# Altium schematic symbol library RLC-Library.SchLib: 7 symbols
Pins are listed as number, name and electrical type; pins without a type are passive.

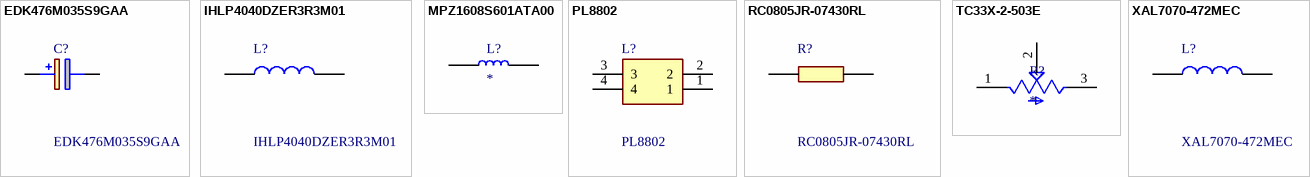
[diagram p0: symbols EDK476M035S9GAA to XAL7070-472MEC]

## EDK476M035S9GAA
designator C?
Surface Mount, Aluminum Electrolytic; Manufacturer_Name: Yageo Group; Geometry.Height: 5.65mm; Manufacturer_Part_Number: EDK476M035S9GAA; Mouser Part Number: 80-EDK476M035S9GAA; Mouser Price/Stock: https://www.mouser.co.uk/ProductDetail/KEMET/EDK476M035S9GAA?qs=T9vdlufmP8xkQWuUhcj0Kg%3D%3D; Arrow Part Number: EDK476M035S9GAA; Arrow Price/Stock: https://www.arrow.com/en/products/edk476m035s9gaa/kemet-corporation?utm_currency=USD&region=nac; Datasheet Link: https://www.yageogroup.com/content/datasheet/asset/file/KEM_A4001_EDK
footprint EDK476M035S9GAA
pins: 1 +, 2 -

## IHLP4040DZER3R3M01
designator L?
Inductor High Current Shielded Wirewound 3.3uH 20% 100KHz 10A 11.8mOhm DCR 4040 T/R; Manufacturer_Name: Vishay; Geometry.Height: 4mm; Core Material: Composite; DC Resistance (DCR): 11.8mΩ; Value: 3.3µH; Max DC Current: 18.6A; Number of Circuits: 1; Self Resonant Frequency: 5MHz; ESR: 14.4mΩ; Shielding: Yes; Manufacturer_Part_Number: IHLP4040DZER3R3M01; Mouser Part Number: 70-IHLP4040DZER3R3M0; Mouser Price/Stock: https://www.mouser.co.uk/ProductDetail/Vishay-Dale/IHLP4040DZER3R3M01?qs=UUKq9QDXQ0nKJM%252B3xlQGHA%3D%3D; Arrow Part Number: IHLP4040DZER3R3M01; Arrow Price/Stock: https://www.arrow.com/en/products/ihlp4040dzer3r3m01/vishay?region=nac; Datasheet Link: https://www.vishay.com/docs/34193/ihlp-4040dz-01.pdf; Supplier: Farnell; Supplier Part Number: 1547037; Manufacturer: Vishay; Manufacturer Part Number: IHLP4040DZER3R3M01; RoHS: Compliant; Category: Fixed Inductors; Stock: 559; Case/Package: 4040; Case Code (Imperial): 4040; China RoHS: Compliant; Composition: Wirewound; Contact Plating: Tin; Current Rating: 10A; Depth: 10.3mm; Height: 4mm; Height - Seated (Max): 3.9878mm; Inductance Tolerance: 20%; Lead Free: Lead Free; Lifecycle Status: Production; Max Current Rating: 10A; Max Operating Temperature: 125°C; Military Standard: Not; Min Operating Temperature: -55°C; Mounting Technology: Surface Mount; Number of Terminals: 2; Radiation Hardening: No; REACH SVHC: Yes; RMS Current (Irms): 10A; Saturation Current: 18.6A; Schedule B: 8504500000, 8504500000|8504500000|8504500000|8504500000|8504500000; Termination: SMD/SMT; Test Frequency: 100kHz; Tolerance: 20%; Weight: 2.000002g; Width: 10.16mm; ComponentLink1URL: https://datasheet.octopart.com:443/IHLP4040DZER3R3M01-Vishay-datasheet-181468593.pdf?src-supplier=IHS; ComponentLink1Description: https://datasheet.octopart.com:443/IHLP4040DZER3R3M01-Vishay-datasheet-181468593.pdf?src-supplier=IHS; ComponentLink2URL: https://datasheet.octopart.com:443/IHLP4040DZER3R3M01-Vishay-Dale-datasheet-181465866.pdf?src-supplier=IHS; ComponentLink2Description: https://datasheet.octopart.com:443/IHLP4040DZER3R3M01-Vishay-Dale-datasheet-181465866.pdf?src-supplier=IHS; ComponentLink3URL: https://datasheet.octopart.com:443/IHLP4040DZER3R3M01-Vishay-datasheet-67039456.pdf?src-supplier=Farnell; ComponentLink3Description: https://datasheet.octopart.com:443/IHLP4040DZER3R3M01-Vishay-datasheet-67039456.pdf?src-supplier=Farnell; ComponentLink4URL: https://datasheet.octopart.com:443/IHLP4040DZER3R3M01-Vishay-datasheet-167142.pdf?src-supplier=Farnell; ComponentLink4Description: https://datasheet.octopart.com:443/IHLP4040DZER3R3M01-Vishay-datasheet-167142.pdf?src-supplier=Farnell; ComponentLink5URL: https://datasheet.octopart.com/IHLP4040DZER3R3M01-Vishay-datasheet-12542609.pdf; ComponentLink5Description: https://datasheet.octopart.com/IHLP4040DZER3R3M01-Vishay-datasheet-12542609.pdf; ComponentLink6URL: https://datasheet.octopart.com/IHLP4040DZER3R3M01-Vishay-datasheet-12537444.pdf; ComponentLink6Description: https://datasheet.octopart.com/IHLP4040DZER3R3M01-Vishay-datasheet-12537444.pdf; ComponentLink7URL: https://datasheet.octopart.com/IHLP4040DZER3R3M01-Vishay-datasheet-12514016.pdf; ComponentLink7Description: https://datasheet.octopart.com/IHLP4040DZER3R3M01-Vishay-datasheet-12514016.pdf; ComponentLink8URL: https://datasheet.octopart.com/IHLP4040DZER3R3M01-Vishay-datasheet-5394347.pdf; ComponentLink8Description: https://datasheet.octopart.com/IHLP4040DZER3R3M01-Vishay-datasheet-5394347.pdf; ComponentLink9URL: https://datasheet.octopart.com:443/IHLP4040DZER3R3M01-Vishay-datasheet-8434461.pdf?src-supplier=Newark; ComponentLink9Description: https://datasheet.octopart.com:443/IHLP4040DZER3R3M01-Vishay-datasheet-8434461.pdf?src-supplier=Newark; ComponentLink10URL: https://datasheet.octopart.com:443/IHLP4040DZER3R3M01-Vishay-datasheet-62320562.pdf?src-supplier=element14+APAC; ComponentLink10Description: https://datasheet.octopart.com:443/IHLP4040DZER3R3M01-Vishay-datasheet-62320562.pdf?src-supplier=element14+APAC; ComponentLink11URL: https://datasheet.octopart.com:443/IHLP4040DZER3R3M01-Vishay-datasheet-101783941.pdf?src-supplier=Future+Electronics; ComponentLink11Description: https://datasheet.octopart.com:443/IHLP4040DZER3R3M01-Vishay-datasheet-101783941.pdf?src-supplier=Future+Electronics; ComponentLink12URL: https://datasheet.octopart.com:443/IHLP4040DZER3R3M01-Vishay-datasheet-12531877.pdf?src-supplier=Future+Electronics; ComponentLink12Description: https://datasheet.octopart.com:443/IHLP4040DZER3R3M01-Vishay-datasheet-12531877.pdf?src-supplier=Future+Electronics; ComponentLink13URL: https://datasheet.octopart.com:443/IHLP4040DZER3R3M01-Vishay-Dale-datasheet-42936488.pdf?src-supplier=RS+(Formerly+Allied+Electronics); ComponentLink13Description: https://datasheet.octopart.com:443/IHLP4040DZER3R3M01-Vishay-Dale-datasheet-42936488.pdf?src-supplier=RS+(Formerly+Allied+Electronics); ComponentLink14URL: https://datasheet.octopart.com:443/IHLP4040DZER3R3M01-Vishay-datasheet-140572121.pdf?src-supplier=Arrow.cn; ComponentLink14Description: https://datasheet.octopart.com:443/IHLP4040DZER3R3M01-Vishay-datasheet-140572121.pdf?src-supplier=Arrow.cn; ComponentLink15URL: http://sigma.octopart.com:80/rohs_statement/Vishay-company-15.pdf?src-supplier=Compliance+Statements; ComponentLink15Description: http://sigma.octopart.com:80/rohs_statement/Vishay-company-15.pdf?src-supplier=Compliance+Statements
footprint IHLP4040DZER3R3M01
pins: 1, 2

## MPZ1608S601ATA00
designator L?
Ferrite Beads Multi-Layer 600Ohm 25% 100MHz 1A 0.15Ohm DCR 0603 T/R; Manufacturer Lifecycle Status: PRODUCTION; MF: TDK; MP: MPZ1608S601ATA00; DC Resistance (DCR): 150mΩ; Impedance: 600Ω; Number of Circuits: 1; SnapEDA_Link: https://www.snapeda.com/parts/MPZ1608S601ATA00/TDK/view-part/?ref=snap; Package: 0603 TDK; Value: *; Check_prices: https://www.snapeda.com/parts/MPZ1608S601ATA00/TDK/view-part/?ref=eda; Supplier: Farnell; Supplier Part Number: 2800777; Manufacturer: TDK; Manufacturer Part Number: MPZ1608S601ATA00; RoHS: Compliant; Category: Ferrite Beads and Chips; Stock: 80000; Case/Package: 0603; Case Code (Imperial): 0603; Case Code (Metric): 1608; China RoHS: Compliant; Core Material: Ferrite; Current Rating: 1A; Depth: 800µm; Height: 800µm; Lead Free: Lead Free; Length: 1.6mm; Lifecycle Status: Production; Max DC Current: 1A; Clock Frequency: 100MHz; Max Length: 1.75mm; Max Operating Temperature: 125°C; Max Width: 950µm; Min Length: 1.45mm; Min Operating Temperature: -55°C; Min Width: 650µm; Mounting Technology: Surface Mount; Number of Terminals: 2; Packaging: Cut Tape; REACH SVHC: Yes; RMS Current (Irms): 1A; Schedule B: 8504500000, 8504500000|8504500000|8504500000|8504500000|8504500000; ESR: 150mΩ; Termination: SMD/SMT; Test Frequency: 100MHz; Tolerance: 25%; Weight: 2.012816mg; Width: 800µm; ComponentLink1URL: https://datasheet.octopart.com:443/MPZ1608S601ATA00-TDK-datasheet-155380319.pdf?src-supplier=TDK; ComponentLink1Description: https://datasheet.octopart.com:443/MPZ1608S601ATA00-TDK-datasheet-155380319.pdf?src-supplier=TDK; ComponentLink2URL: https://datasheet.octopart.com:443/MPZ1608S601ATA00-TDK-datasheet-141913842.pdf?src-supplier=TME; ComponentLink2Description: https://datasheet.octopart.com:443/MPZ1608S601ATA00-TDK-datasheet-141913842.pdf?src-supplier=TME; ComponentLink3URL: https://datasheet.octopart.com:443/MPZ1608S601ATA00-TDK-datasheet-82475260.pdf?src-supplier=Newark; ComponentLink3Description: https://datasheet.octopart.com:443/MPZ1608S601ATA00-TDK-datasheet-82475260.pdf?src-supplier=Newark; ComponentLink4URL: https://datasheet.octopart.com:443/MPZ1608S601ATA00-TDK-datasheet-99917310.pdf?src-supplier=Newark; ComponentLink4Description: https://datasheet.octopart.com:443/MPZ1608S601ATA00-TDK-datasheet-99917310.pdf?src-supplier=Newark; ComponentLink5URL: https://datasheet.octopart.com:443/MPZ1608S601ATA00-TDK-datasheet-8852356.pdf?src-supplier=Newark; ComponentLink5Description: https://datasheet.octopart.com:443/MPZ1608S601ATA00-TDK-datasheet-8852356.pdf?src-supplier=Newark; ComponentLink6URL: https://datasheet.octopart.com:443/MPZ1608S601ATA00-TDK-datasheet-21631858.pdf?src-supplier=Farnell; ComponentLink6Description: https://datasheet.octopart.com:443/MPZ1608S601ATA00-TDK-datasheet-21631858.pdf?src-supplier=Farnell; ComponentLink7URL: https://datasheet.octopart.com:443/MPZ1608S601ATA00-TDK-datasheet-38423207.pdf?src-supplier=Future+Electronics; ComponentLink7Description: https://datasheet.octopart.com:443/MPZ1608S601ATA00-TDK-datasheet-38423207.pdf?src-supplier=Future+Electronics
footprint INDC1608X95N
pins: 1, 2

## PL8802
designator L?
Common Mode Choke, 3000uH, 30%, 2 Element, SMD, 9170; Manufacturer_Name: iNRCORE; Geometry.Height: 13.2mm; Current Rating: 2.5A; DC Resistance (DCR): 80mΩ; Value: 3mH; Number of Circuits: 2; Self Resonant Frequency: 2.2MHz; Shielding: Unshielded; Voltage Rating: 250V; Manufacturer_Part_Number: PL8802; Mouser Part Number: 673-PL8802; Mouser Price/Stock: https://www.mouser.co.uk/ProductDetail/iNRCORE/PL8802?qs=BZBei1rCqCCAwZH68Kczkw%3D%3D; Arrow Part Number: *; Arrow Price/Stock: *; Datasheet Link: https://www.mouser.co.uk/datasheet/2/937/M116-1384936.pdf; Supplier: Mouser; Supplier Part Number: 673-PL8802; Manufacturer: iNRCORE; Manufacturer Part Number: PL8802; Category: Fixed Inductors; Stock: 195; Pricing: 1=16,33, 10=16,32, 50=14,59, 100=14,59, 1000=13,36, 10000=13,36 (USD); Export Control Classification Number (ECCN) Code: EAR99; Height: 12.95mm; Harmonized Tariff Schedule (HTS) Code: 8504.50.80.00; Introduction Date: 2006-02-14; Length: 23.11mm; Lifecycle Status: Production; Max Current Rating: 2.5A; Max Operating Temperature: 130°C; Min Operating Temperature: -55°C; Number of Terminals: 4; Tolerance: 30%; Width: 17.78mm; ComponentLink1URL: https://datasheet.octopart.com:443/PL8802-iNRCORE-datasheet-180095662.pdf?src-supplier=IHS; ComponentLink1Description: https://datasheet.octopart.com:443/PL8802-iNRCORE-datasheet-180095662.pdf?src-supplier=IHS
footprint PL8802
pins: 1, 2, 3, 4

## RC0805JR-07430RL
designator R?
RC Series 0805 0.125 W 430 Ohm ±5% ±100 ppm/°C SMT Thick Film Chip Resistor; Manufacturer_Name: Yageo Group; Geometry.Height: 0.6mm; Max Power Dissipation: 125mW; Value: 430Ω; Voltage Rating: 150V; Manufacturer_Part_Number: RC0805JR-07430RL; Mouser Part Number: *; Mouser Price/Stock: *; Arrow Part Number: *; Arrow Price/Stock: *; Datasheet Link: http://www.yageo.com/documents/recent/PYu-RC_Group_51_RoHS_L_10.pdf; Supplier: Farnell; Supplier Part Number: 3496126; Manufacturer: Yageo Group; Manufacturer Part Number: RC0805JR-07430RL; RoHS: Compliant; Category: Chip SMD Resistors; Stock: 10100; Case/Package: 0805; Case Code (Imperial): 0805; China RoHS: Non-Compliant; Composition: Thick Film; Contact Plating: Lead, Tin; Depth: 1.25mm; Features: Moisture Resistant; Height: 500µm; Lead Free: Lead Free; Length: 2mm; Lifecycle Status: Production; Max Operating Temperature: 155°C; Military Standard: Not; Min Operating Temperature: -55°C; Mounting Technology: Surface Mount; Number of Terminals: 2; Number of Terminations: 2; Packaging: Tape & Reel; Power Dissipation: 125mW; Power Rating: 125mW; Radiation Hardening: No; REACH SVHC: Yes; Schedule B: 8533210045, 8533210045|8533210045|8533210045|8533210045|8533210045; Temperature Coefficient: 100ppm/°C; Termination: SMD/SMT; Tolerance: 5%; Voltage Rating (DC): 150V; Weight: 5.499807mg; Width: 1.25mm; Working Voltage: 150V; ComponentLink1URL: https://datasheet.octopart.com:443/RC0805JR-07430RL-Yageo-datasheet-175887523.pdf?src-supplier=Newark; ComponentLink1Description: https://datasheet.octopart.com:443/RC0805JR-07430RL-Yageo-datasheet-175887523.pdf?src-supplier=Newark; ComponentLink2URL: https://datasheet.octopart.com:443/RC0805JR-07430RL-Yageo-Group-datasheet-190305687.pdf?src-supplier=Future+Electronics; ComponentLink2Description: https://datasheet.octopart.com:443/RC0805JR-07430RL-Yageo-Group-datasheet-190305687.pdf?src-supplier=Future+Electronics; ComponentLink3URL: https://datasheet.octopart.com:443/RC0805JR-07430RL-Yageo-datasheet-164759695.pdf?src-supplier=Future+Electronics; ComponentLink3Description: https://datasheet.octopart.com:443/RC0805JR-07430RL-Yageo-datasheet-164759695.pdf?src-supplier=Future+Electronics; ComponentLink4URL: https://datasheet.octopart.com:443/RC0805JR-07430RL-Yageo-datasheet-12592811.pdf?src-supplier=Future+Electronics; ComponentLink4Description: https://datasheet.octopart.com:443/RC0805JR-07430RL-Yageo-datasheet-12592811.pdf?src-supplier=Future+Electronics; ComponentLink5URL: https://datasheet.octopart.com:443/RC0805JR-07430RL-Yageo-datasheet-8324252.pdf?src-supplier=Future+Electronics; ComponentLink5Description: https://datasheet.octopart.com:443/RC0805JR-07430RL-Yageo-datasheet-8324252.pdf?src-supplier=Future+Electronics; ComponentLink6URL: https://datasheet.octopart.com:443/RC0805JR-07430RL-Yageo-datasheet-8330313.pdf?src-supplier=TME; ComponentLink6Description: https://datasheet.octopart.com:443/RC0805JR-07430RL-Yageo-datasheet-8330313.pdf?src-supplier=TME; ComponentLink7URL: https://datasheet.octopart.com/RC0805JR-07430RL-Yageo-datasheet-73766026.pdf; ComponentLink7Description: https://datasheet.octopart.com/RC0805JR-07430RL-Yageo-datasheet-73766026.pdf; ComponentLink8URL: https://datasheet.octopart.com:443/RC0805JR-07430RL-Yageo-datasheet-118657.pdf?src-supplier=DigiKey; ComponentLink8Description: https://datasheet.octopart.com:443/RC0805JR-07430RL-Yageo-datasheet-118657.pdf?src-supplier=DigiKey; ComponentLink9URL: http://sigma.octopart.com:80/conflict_mineral_statement/Yageo-company-3.pdf?src-supplier=Compliance+Statements; ComponentLink9Description: http://sigma.octopart.com:80/conflict_mineral_statement/Yageo-company-3.pdf?src-supplier=Compliance+Statements; ComponentLink10URL: http://sigma.octopart.com:80/rohs_statement/Yageo-company-2.pdf?src-supplier=Compliance+Statements; ComponentLink10Description: http://sigma.octopart.com:80/rohs_statement/Yageo-company-2.pdf?src-supplier=Compliance+Statements
footprint RC0805JR-07430RL
pins: 1, 2

## TC33X-2-503E
designator R?
Adjustable Resistors – SMD; BOURNS; TC33X-2-503E; Cermet; 1.2 mm; 100 mW; Surface Mount; Max Power Dissipation: 100mW; Number of Turns: 1; Power Dissipation: 150mW; Temperature Coefficient: 250ppm/°C; Tolerance: 25%; Voltage Rating (DC): 50V; SnapEDA_Link: https://www.snapeda.com/parts/TC33X-2-503E/Bourns/view-part/467769/?ref=snap; Package: 1608 Bourns; MP: TC33X-2-503E; MF: Bourns; Value: *; Check_prices: https://www.snapeda.com/parts/TC33X-2-503E/Bourns/view-part/467769/?ref=eda; Digi-Key_Part_Number: TC33X-503ECT-ND; Purchase-URL: https://pricing.snapeda.com/search/part/TC33X-2-503E/?ref=eda; Supplier: DigiKey; Supplier Part Number: TC33X-503ECT-ND; Manufacturer: Bourns; Manufacturer Part Number: TC33X-2-503E; RoHS: Compliant; Category: Variable Resistors and Potentiometers; Stock: 2932; Pricing: 1=0,25, 10=0,213, 25=0,1996, 50=0,1896, 100=0,18, 250=0,168, 500=0,15938, 1000=0,15119 (USD); Color: Silver; Composition: Cermet; Depth: 3.8mm; Height: 1.2mm; Lead Free: Contains Lead; Length: 3.8mm; Lifecycle Status: Production; Max Operating Temperature: 100°C; Military Standard: Not; Min Operating Temperature: -40°C; Mounting Technology: Surface Mount; Number of Terminals: 3; Packaging: Cut Tape; Power Rating: 100mW; Radiation Hardening: No; REACH SVHC: Yes; Schedule B: 8533400080, 8533400080|8533400080|8533400080|8533400080|8533400080; Termination: Foot Print; Weight: 29.4mg; Width: 3.6mm; Working Voltage: 50V; ComponentLink1URL: https://datasheet.octopart.com:443/TC33X-2-503E-Bourns-datasheet-182142024.pdf?src-supplier=IHS; ComponentLink1Description: https://datasheet.octopart.com:443/TC33X-2-503E-Bourns-datasheet-182142024.pdf?src-supplier=IHS; ComponentLink2URL: https://datasheet.octopart.com:443/TC33X-2-503E-Bourns-datasheet-11551316.pdf?src-supplier=Electro+Sonic; ComponentLink2Description: https://datasheet.octopart.com:443/TC33X-2-503E-Bourns-datasheet-11551316.pdf?src-supplier=Electro+Sonic; ComponentLink3URL: https://datasheet.octopart.com:443/TC33X-2-503E-Bourns-datasheet-154730028.pdf?src-supplier=Electro+Sonic; ComponentLink3Description: https://datasheet.octopart.com:443/TC33X-2-503E-Bourns-datasheet-154730028.pdf?src-supplier=Electro+Sonic; ComponentLink4URL: https://datasheet.octopart.com:443/TC33X-2-503E-Bourns-datasheet-67039831.pdf?src-supplier=element14+APAC; ComponentLink4Description: https://datasheet.octopart.com:443/TC33X-2-503E-Bourns-datasheet-67039831.pdf?src-supplier=element14+APAC; ComponentLink5URL: https://datasheet.octopart.com:443/TC33X-2-503E-Bourns-datasheet-164917123.pdf?src-supplier=Newark; ComponentLink5Description: https://datasheet.octopart.com:443/TC33X-2-503E-Bourns-datasheet-164917123.pdf?src-supplier=Newark; ComponentLink6URL: https://datasheet.octopart.com:443/TC33X-2-503E-Bourns-datasheet-26822215.pdf?src-supplier=Newark; ComponentLink6Description: https://datasheet.octopart.com:443/TC33X-2-503E-Bourns-datasheet-26822215.pdf?src-supplier=Newark; ComponentLink7URL: https://datasheet.octopart.com:443/TC33X-2-503E-Bourns-datasheet-41964919.pdf?src-supplier=Newark; ComponentLink7Description: https://datasheet.octopart.com:443/TC33X-2-503E-Bourns-datasheet-41964919.pdf?src-supplier=Newark; ComponentLink8URL: https://datasheet.octopart.com:443/TC33X-2-503E-Bourns-datasheet-47549324.pdf?src-supplier=RS+(Formerly+Allied+Electronics); ComponentLink8Description: https://datasheet.octopart.com:443/TC33X-2-503E-Bourns-datasheet-47549324.pdf?src-supplier=RS+(Formerly+Allied+Electronics); ComponentLink9URL: https://datasheet.octopart.com:443/TC33X-2-503E-Bourns-datasheet-549861.pdf?src-supplier=RS+(Formerly+Allied+Electronics); ComponentLink9Description: https://datasheet.octopart.com:443/TC33X-2-503E-Bourns-datasheet-549861.pdf?src-supplier=RS+(Formerly+Allied+Electronics); ComponentLink10URL: https://datasheet.octopart.com:443/TC33X-2-503E-Bourns-datasheet-21366158.pdf?src-supplier=Farnell; ComponentLink10Description: https://datasheet.octopart.com:443/TC33X-2-503E-Bourns-datasheet-21366158.pdf?src-supplier=Farnell; ComponentLink11URL: https://datasheet.octopart.com:443/TC33X-2-503E-Bourns-datasheet-38800.pdf?src-supplier=Farnell; ComponentLink11Description: https://datasheet.octopart.com:443/TC33X-2-503E-Bourns-datasheet-38800.pdf?src-supplier=Farnell; ComponentLink12URL: https://datasheet.octopart.com:443/TC33X-2-503E-Bourns-datasheet-5319878.pdf?src-supplier=element14; ComponentLink12Description: https://datasheet.octopart.com:443/TC33X-2-503E-Bourns-datasheet-5319878.pdf?src-supplier=element14; ComponentLink13URL: https://datasheet.octopart.com:443/TC33X-2-503E-Bourns-datasheet-14175263.pdf?src-supplier=iiiC; ComponentLink13Description: https://datasheet.octopart.com:443/TC33X-2-503E-Bourns-datasheet-14175263.pdf?src-supplier=iiiC; ComponentLink14URL: https://datasheet.octopart.com:443/TC33X-2-503E-Bourns-datasheet-39003.pdf?src-supplier=Mouser; ComponentLink14Description: https://datasheet.octopart.com:443/TC33X-2-503E-Bourns-datasheet-39003.pdf?src-supplier=Mouser; ComponentLink15URL: http://sigma.octopart.com:80/conflict_mineral_statement/Bourns-company-36.pdf?src-supplier=Compliance+Statements; ComponentLink15Description: http://sigma.octopart.com:80/conflict_mineral_statement/Bourns-company-36.pdf?src-supplier=Compliance+Statements
footprint TRIM_TC33X-2-503E (Footprint not found)
pins: 1 CCW, 2 W, 3 CW

## XAL7070-472MEC
designator L?
General Purpose Inductor, 4.7uH, 20%, 1 Element, Composite-Core, SMD, 3028; Manufacturer_Name: COILCRAFT; Geometry.Height: 7mm; DC Resistance (DCR): 14.26mΩ; Value: 4.7µH; Max Current Rating: 13.6A; Number of Circuits: 1; Saturation Current: 15.2A; Self Resonant Frequency: 26MHz; Shielding: Yes; Test Frequency: 1MHz; Mouser Part Number: 994-XAL7070-472MEC; Mouser Price/Stock: https://www.mouser.co.uk/ProductDetail/Coilcraft/XAL7070-472MEC?qs=zCSbvcPd3pZar3i%2F4%252BSjWg%3D%3D; Manufacturer_Part_Number: XAL7070-472MEC; Datasheet Link: https://www.coilcraft.com/pdfs/xal7070.pdf; Supplier: Farnell; Supplier Part Number: 2289129; Manufacturer: Coilcraft; Manufacturer Part Number: XAL7070-472MEC; RoHS: Compliant; Category: Fixed Inductors; Stock: 742; Ambient Temperature Range High: 125°C; Case/Package: SMD/SMT; Core Material: Composite; Height: 7mm; Inductance Tolerance: 20%; Lead Free: Contains Lead; Length: 8mm; Lifecycle Status: Production; Max DC Current: 13.6A; Max Operating Temperature: 125°C; Min Operating Temperature: -40°C; Mounting Technology: Surface Mount; Number of Terminals: 2; Packaging: Cut Tape; REACH SVHC: Yes; RMS Current (Irms): 13.6A; ESR: 14.26mΩ; Termination: SMD/SMT; Tolerance: 20%; Width: 7.2mm; ComponentLink1URL: https://datasheet.octopart.com:443/XAL7070-472MEC-Coilcraft-datasheet-180122068.pdf?src-supplier=IHS; ComponentLink1Description: https://datasheet.octopart.com:443/XAL7070-472MEC-Coilcraft-datasheet-180122068.pdf?src-supplier=IHS; ComponentLink2URL: https://datasheet.octopart.com:443/XAL7070-472MEC-Coilcraft-datasheet-10791984.pdf?src-supplier=Coilcraft+Direct; ComponentLink2Description: https://datasheet.octopart.com:443/XAL7070-472MEC-Coilcraft-datasheet-10791984.pdf?src-supplier=Coilcraft+Direct; ComponentLink3URL: https://datasheet.octopart.com:443/XAL7070-472MEC-Coilcraft-datasheet-181955335.pdf?src-supplier=Newark; ComponentLink3Description: https://datasheet.octopart.com:443/XAL7070-472MEC-Coilcraft-datasheet-181955335.pdf?src-supplier=Newark; ComponentLink4URL: https://datasheet.octopart.com:443/XAL7070-472MEC-Coilcraft-datasheet-14354386.pdf?src-supplier=Newark; ComponentLink4Description: https://datasheet.octopart.com:443/XAL7070-472MEC-Coilcraft-datasheet-14354386.pdf?src-supplier=Newark
footprint XAL7070472MEC
pins: 1, 2